# Altium schematic symbol library 830108208209.SchLib: 1 symbol
Pins are listed as number, name and electrical type; pins without a type are passive.

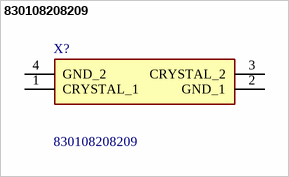
[diagram p0: symbol 830108208209]

## 830108208209
designator X?
24 MHz +/-10ppm Crystal 10pF 100 Ohms 4-SMD, No Lead; Manufacturer_Name: Wurth Elektronik; Geometry.Height: 0.6mm; Manufacturer_Part_Number: 830108208209; Mouser Part Number: 710-830108208209; Mouser Price/Stock: https://www.mouser.co.uk/ProductDetail/Wurth-Elektronik/830108208209?qs=hWgE7mdIu5Qfk68EXTEoAw%3D%3D; Arrow Part Number: *; Arrow Price/Stock: *; Datasheet Link: https://www.we-online.com/components/products/datasheet/830108208209.pdf
footprint 830108208209
pins: 1 CRYSTAL_1, 2 GND_1, 3 CRYSTAL_2, 4 GND_2